# EAGLE library part 623326235521 (library Wurth_Elektronik_Electromechanic_Board_to_Board_Connectors_rev16a)
WR-PHD 1.27mm Dual SMT Pin Header H=1.80mm, 26 Pins=>Code : Con_BTB_PHD_1.27_2_623326235521 <http://katalog.we-online.de/media/thumbs2/eican/thb_Con_BTB_PHD_1.27_2_6233xx235521_pf2.jpg> Details see: http://katalog.we-online.de/en/em/623_3xx_235_521 Created 2014-06-04, Karrer Zheng 2014 (C) Würth Elektronik
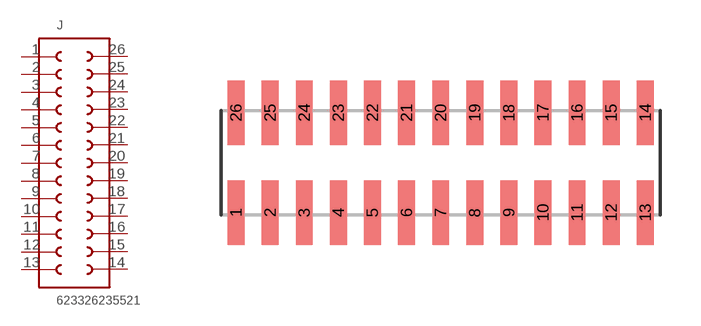
[diagram p299: symbol with the pads of 623326235521; footprint 623326235521]

Designator prefix J

## 623326235521  [623326235521]
1  1  pas
2  2  pas
3  3  pas
4  4  pas
5  5  pas
6  6  pas
7  7  pas
8  8  pas
9  9  pas
10  10  pas
11  11  pas
12  12  pas
13  13  pas
14  14  pas
15  15  pas
16  16  pas
17  17  pas
18  18  pas
19  19  pas
20  20  pas
21  21  pas
22  22  pas
23  23  pas
24  24  pas
25  25  pas
26  26  pas

## Footprint 623326235521 (pad centres in mm)
WR-PHD 1.27mm Dual SMT Pin Header H=1.80mm, 26 Pins
smd 0.63 x 2.4: 1 -7.62,-1.86; 2 -6.35,-1.86; 3 -5.08,-1.86; 4 -3.81,-1.86; 5 -2.54,-1.86; 6 -1.27,-1.86; 7 0,-1.86; 8 1.27,-1.86; 9 2.54,-1.86; 10 3.81,-1.86; 11 5.08,-1.86; 12 6.35,-1.86; 13 7.62,-1.86; 14 7.62,1.86; 15 6.35,1.86; 16 5.08,1.86; 17 3.81,1.86; 18 2.54,1.86; 19 1.27,1.86; 20 0,1.86; 21 -1.27,1.86; 22 -2.54,1.86; 23 -3.81,1.86; 24 -5.08,1.86; 25 -6.35,1.86; 26 -7.62,1.86